# EAGLE library part CON-FFC15 (library arducorder-mini)
Connector -- Flat flex connector (FFC), 15 pin, 1mm pitch
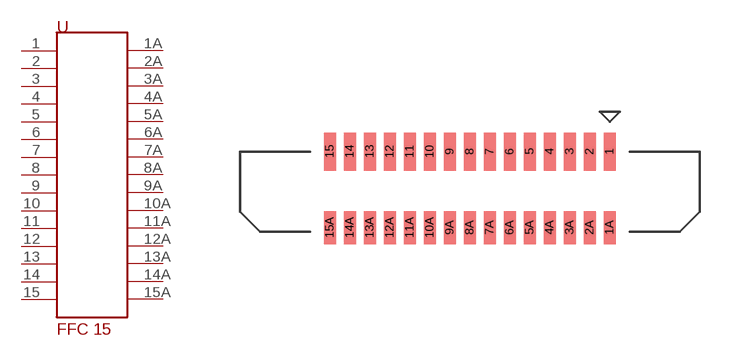
[diagram p14: symbol with the pads of CON-FFC15-1-1734248-5; footprint CON-FFC15-1-1734248-5]

Designator prefix -

## CON-FFC15  [CON-FFC15-1-1734248-5]
1  1
1A  1A
2  2
2A  2A
3  3
3A  3A
4  4
4A  4A
5  5
5A  5A
6  6
6A  6A
7  7
7A  7A
8  8
8A  8A
9  9
9A  9A
10  10
10A  10A
11  11
11A  11A
12  12
12A  12A
13  13
13A  13A
14  14
14A  14A
15  15
15A  15A

## Footprint CON-FFC15-1-1734248-5 (pad centres in mm)
smd 0.6 x 1.9: 1 7,0; 2 6,0; 3 5,0; 4 4,0; 5 3,0; 6 2,0; 7 1,0; 8 0,0; 9 -1,0; 10 -2,0; 11 -3,0; 12 -4,0; 13 -5,0; 14 -6,0; 15 -7,0
smd 0.6 x 1.65: 1A 7,-3.8; 2A 6,-3.8; 3A 5,-3.8; 4A 4,-3.8; 5A 3,-3.8; 6A 2,-3.8; 7A 1,-3.8; 8A 0,-3.8; 9A -1,-3.8; 10A -2,-3.8; 11A -3,-3.8; 12A -4,-3.8; 13A -5,-3.8; 14A -6,-3.8; 15A -7,-3.8